# Altium footprint library IC-MSOP.PcbLib: 4 footprints
Each footprint in its own frame and in the unit in brackets; x right, y up, seen from the top. Pads: shape width x height; smd on the part's side, far side on the other; paste and mask are expansions set on the pad; w line width, h text height; cw(c..) or ccw(c..) is an arc to the next point about the centre after c.
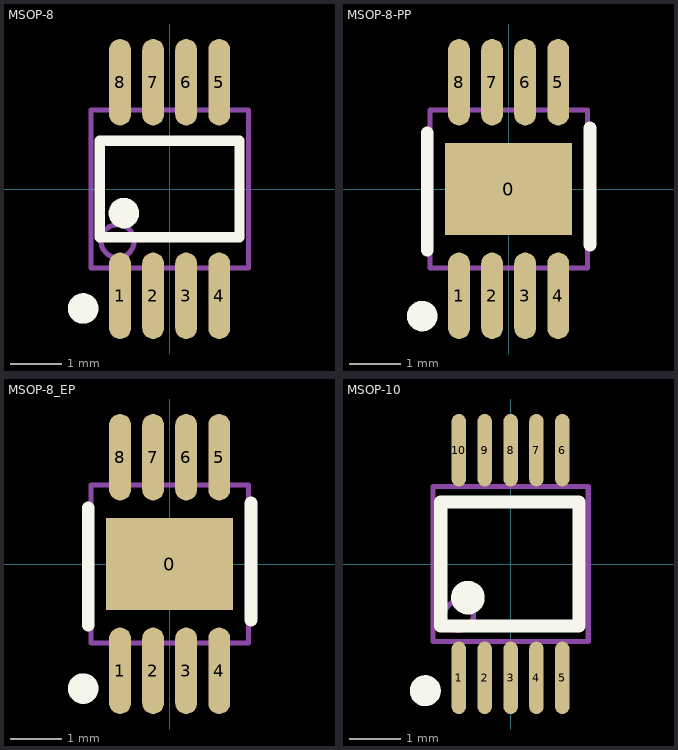
[diagram p0: the footprints below, top view; thin cyan lines are the x and y axes]

## MSOP-8 [mm]
pads (8):
  oval 0.43x1.7 smd mask+0.051: 1(-0.975,-2.1) 2(-0.325,-2.1) 3(0.325,-2.1) 4(0.975,-2.1) 5(0.975,2.1) 6(0.325,2.1) 7(-0.325,2.1) 8(-0.975,2.1)
Top Overlay:
  circle w0.3: c-1.7,-2.35 r0.15
  circle w0.3: c-0.9,-0.475 r0.15
  lines w0.2: -1.375,-0.95 -1.375,0.95 1.375,0.95 1.375,-0.95 -1.375,-0.95
Mechanical 13:
  circle w0.1: c-1.025,-1.025 r0.325
  lines w0.1: -1.55,-1.55 -1.55,1.55 1.55,1.55 1.55,-1.55 -1.55,-1.55

## MSOP-8-PP [mm] "MSOP-8, with EP"
pads (9):
  rect 2.5x1.8 smd mask+0.051: 0(0,0)
  oval 0.43x1.7 smd mask+0.051: 1(-0.975,-2.1) 2(-0.325,-2.1) 3(0.325,-2.1) 4(0.975,-2.1) 5(0.975,2.1) 6(0.325,2.1) 7(-0.325,2.1) 8(-0.975,2.1)
Top Overlay:
  circle w0.3: c-1.7,-2.5 r0.15
  lines w0.254: -1.6,-1.2 -1.6,1.1 ; 1.6,-1.1 1.6,1.2
Mechanical 13:
  lines w0.1: -1.55,-1.55 -1.55,1.55 1.55,1.55 1.55,-1.55 -1.55,-1.55

## MSOP-8_EP [mm] "MSOP-8, with EP"
pads (9):
  rect 2.5x1.8 smd mask+0.051: 0(0,0)
  oval 0.43x1.7 smd mask+0.051: 1(-0.975,-2.1) 2(-0.325,-2.1) 3(0.325,-2.1) 4(0.975,-2.1) 5(0.975,2.1) 6(0.325,2.1) 7(-0.325,2.1) 8(-0.975,2.1)
Top Overlay:
  circle w0.3: c-1.7,-2.45 r0.15
  lines w0.254: -1.6,-1.2 -1.6,1.1 ; 1.6,-1.1 1.6,1.2
Mechanical 13:
  lines w0.1: -1.55,-1.55 1.55,-1.55 1.55,1.55 -1.55,1.55 -1.55,-1.55

## MSOP-10 [mm]
pads (10):
  oval 0.28x1.4 smd mask+0.051: 1(-1,-2.2) 2(-0.5,-2.2) 3(0,-2.2) 4(0.5,-2.2) 5(1,-2.2) 6(1,2.2) 7(0.5,2.2) 8(0,2.2) 9(-0.5,2.2) 10(-1,2.2)
Top Overlay:
  circle w0.3: c-1.65,-2.45 r0.15
  circle w0.4: c-0.825,-0.65 r0.125
  lines w0.254: -1.35,-1.2 1.325,-1.2 1.325,1.2 -1.35,1.2 -1.35,-1.2
Mechanical 13:
  circle w0.1: c-1,-1 r0.283
  lines w0.1: -1.5,-1.5 -1.5,1.5 1.5,1.5 1.5,-1.5 -1.5,-1.5
3D body "MSOP-10.STEP": height 1.2, standoff 0, extent -1.5,-2.46 1.5,2.461